# EAGLE library part ESP-01 (library ESP8266)
ESP-01 - Female Header
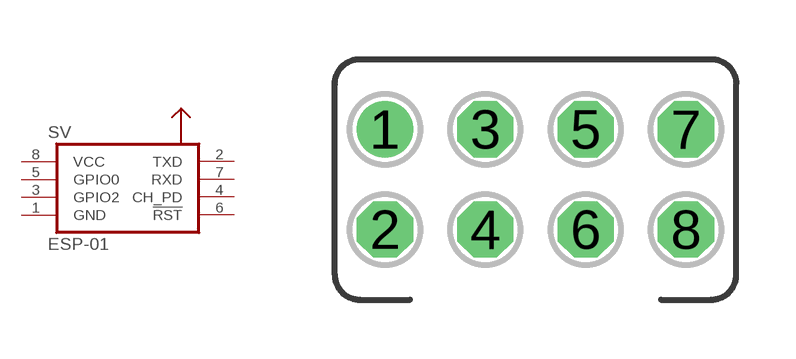
[diagram p0: symbol with the pads of FE04-2; footprint FE04-2]

Designator prefix SV

## ESP-01  [FE04-2]
1  GND  pas
2  TXD  pas
3  GPIO2  pas
4  CH_PD  pas
5  GPIO0  pas
6  !RST  pas
7  RXD  pas
8  VCC  pas

## Footprint FE04-2 (pad centres in mm)
FEMALE HEADER
drill 0.914: 1 -5.08,1.27
drill 0.914 octagon: 2 -5.08,-1.27; 3 -2.54,1.27; 4 -2.54,-1.27; 5 0,1.27; 6 0,-1.27; 7 2.54,1.27; 8 2.54,-1.27